# Altium footprint library goldpins.PcbLib: 1 footprints
Each footprint in its own frame and in the unit in brackets; x right, y up, seen from the top. Pads: shape width x height; smd on the part's side, far side on the other; paste and mask are expansions set on the pad; w line width, h text height; cw(c..) or ccw(c..) is an arc to the next point about the centre after c.
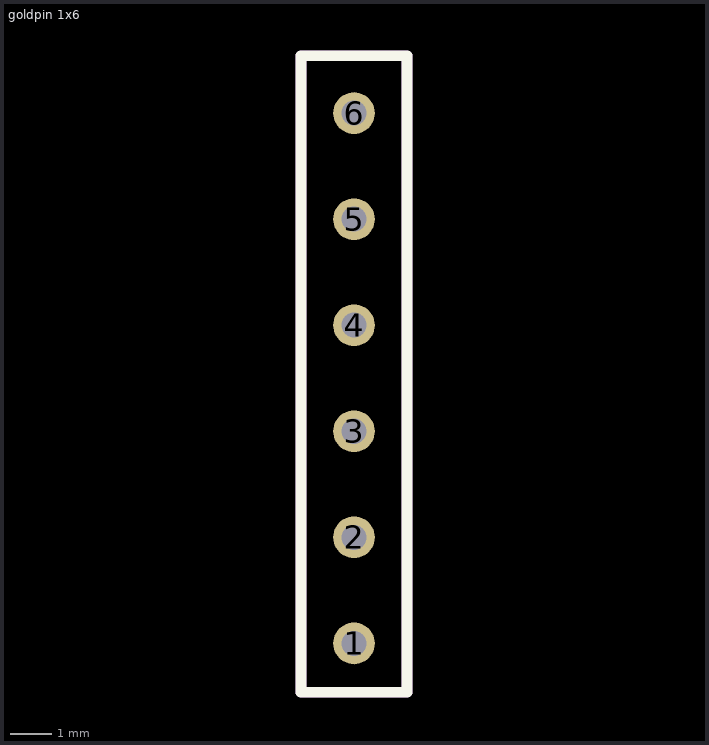
[diagram p0: the footprint, top view; thin cyan lines are the x and y axes]

## goldpin 1x6 [mm]
pads (6):
  round 1 hole 0.6: 1(11.074,9.017) 2(11.074,11.557) 3(11.074,14.097) 4(11.074,16.637) 5(11.074,19.177) 6(11.074,21.717)
Top Overlay:
  lines w0.254: 9.804,7.849 12.344,7.849 12.344,23.089 9.804,23.089 9.804,7.849
Mechanical 1:
  lines w0.254: 9.804,7.849 12.344,7.849 12.344,23.089 9.804,23.089 9.804,7.849